# Altium schematic symbol library Button.SchLib: 1 symbol
Pins are listed as number, name and electrical type; pins without a type are passive.

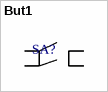
[diagram p0: symbol But1]

## But1
designator SA?  (value not drawn)
footprint But1
pins: 1, 2, 3, 4